# EAGLE library part 4PACK (library ResistorBlocks)
This is a 0603x4 resistor block. Digikey PN:MNR14103RCT-ND
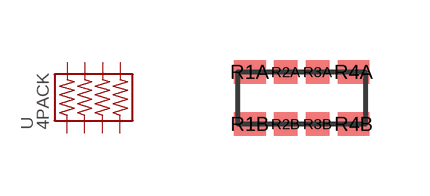
[diagram p0: symbol with the pads of 4PACK_0603; footprint 4PACK_0603]

Designator prefix -

## 4PACK  [4PACK_0603]
R1A  R1A  pas
R1B  R1B  pas
R2A  R2A  pas
R2B  R2B  pas
R3A  R3A  pas
R3B  R3B  pas
R4A  R4A  pas
R4B  R4B  pas

## Footprint 4PACK_0603 (pad centres in mm)
smd 0.8 x 0.6: R1A -2.78,-0.6; R1B -2.78,-1.9; R4A -0.18,-0.6; R4B -0.18,-1.9
smd 0.6 x 0.6: R2A -1.88,-0.6; R2B -1.88,-1.9; R3A -1.08,-0.6; R3B -1.08,-1.9